# Altium footprint library W25Q256JVEIQ_TR.PcbLib: 1 footprints
Each footprint in its own frame and in the unit in brackets; x right, y up, seen from the top. Pads: shape width x height; smd on the part's side, far side on the other; paste and mask are expansions set on the pad; w line width, h text height; cw(c..) or ccw(c..) is an arc to the next point about the centre after c.
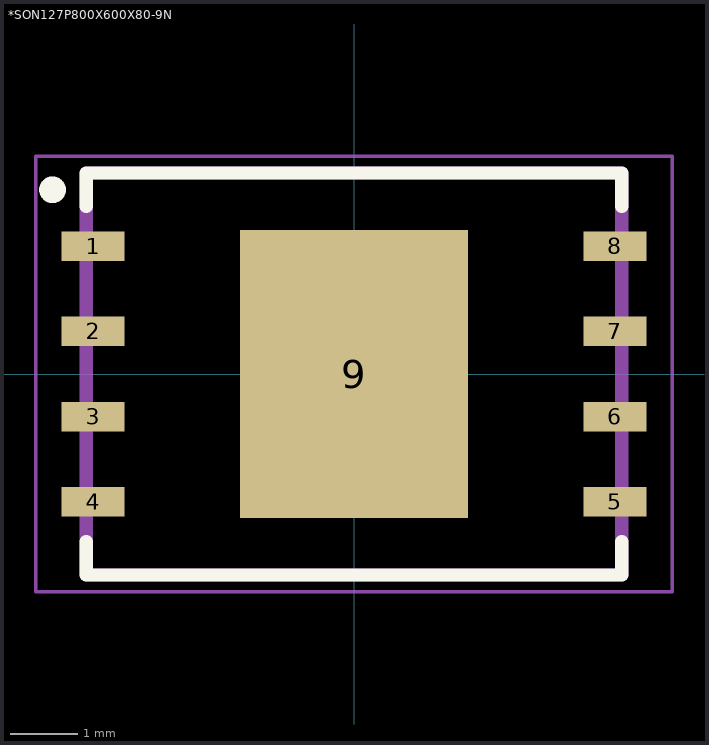
[diagram p0: the footprint, top view; thin cyan lines are the x and y axes]

## *SON127P800X600X80-9N [mm]
pads (9):
  rect 0.94x0.44 smd: 1(-3.895,1.905) 2(-3.895,0.635) 3(-3.895,-0.635) 4(-3.895,-1.905) 5(3.895,-1.905) 6(3.895,-0.635) 7(3.895,0.635) 8(3.895,1.905)
  rect 3.4x4.3 smd: 9(0,0)
Top Overlay:
  circle w0.2: c-4.5,2.75 r0.1
  lines w0.2: -4,-2.5 -4,-3 4,-3 4,-2.5 ; -4,2.5 -4,3 4,3 4,2.5
Top Paste:
  region: -1.076,1.35 1.075,1.35 1.075,-1.351 -1.076,-1.351
Mechanical 13:
  lines w0.2: -4,-3 -4,3 ; -4,-3 4,-3 ; -4,-3 -4,3 ; -4,-3 4,-3 ; -4,3 4,3 ; -4,3 4,3 ; 4,-3 4,3 ; 4,-3 4,3
Mechanical 15:
  lines w0.05: -4.75,-3.25 -4.75,3.25 4.75,3.25 4.75,-3.25 -4.75,-3.25